# Altium integrated library AD Microcontroller ARM.IntLib: 47 symbols (part 3 of 3)
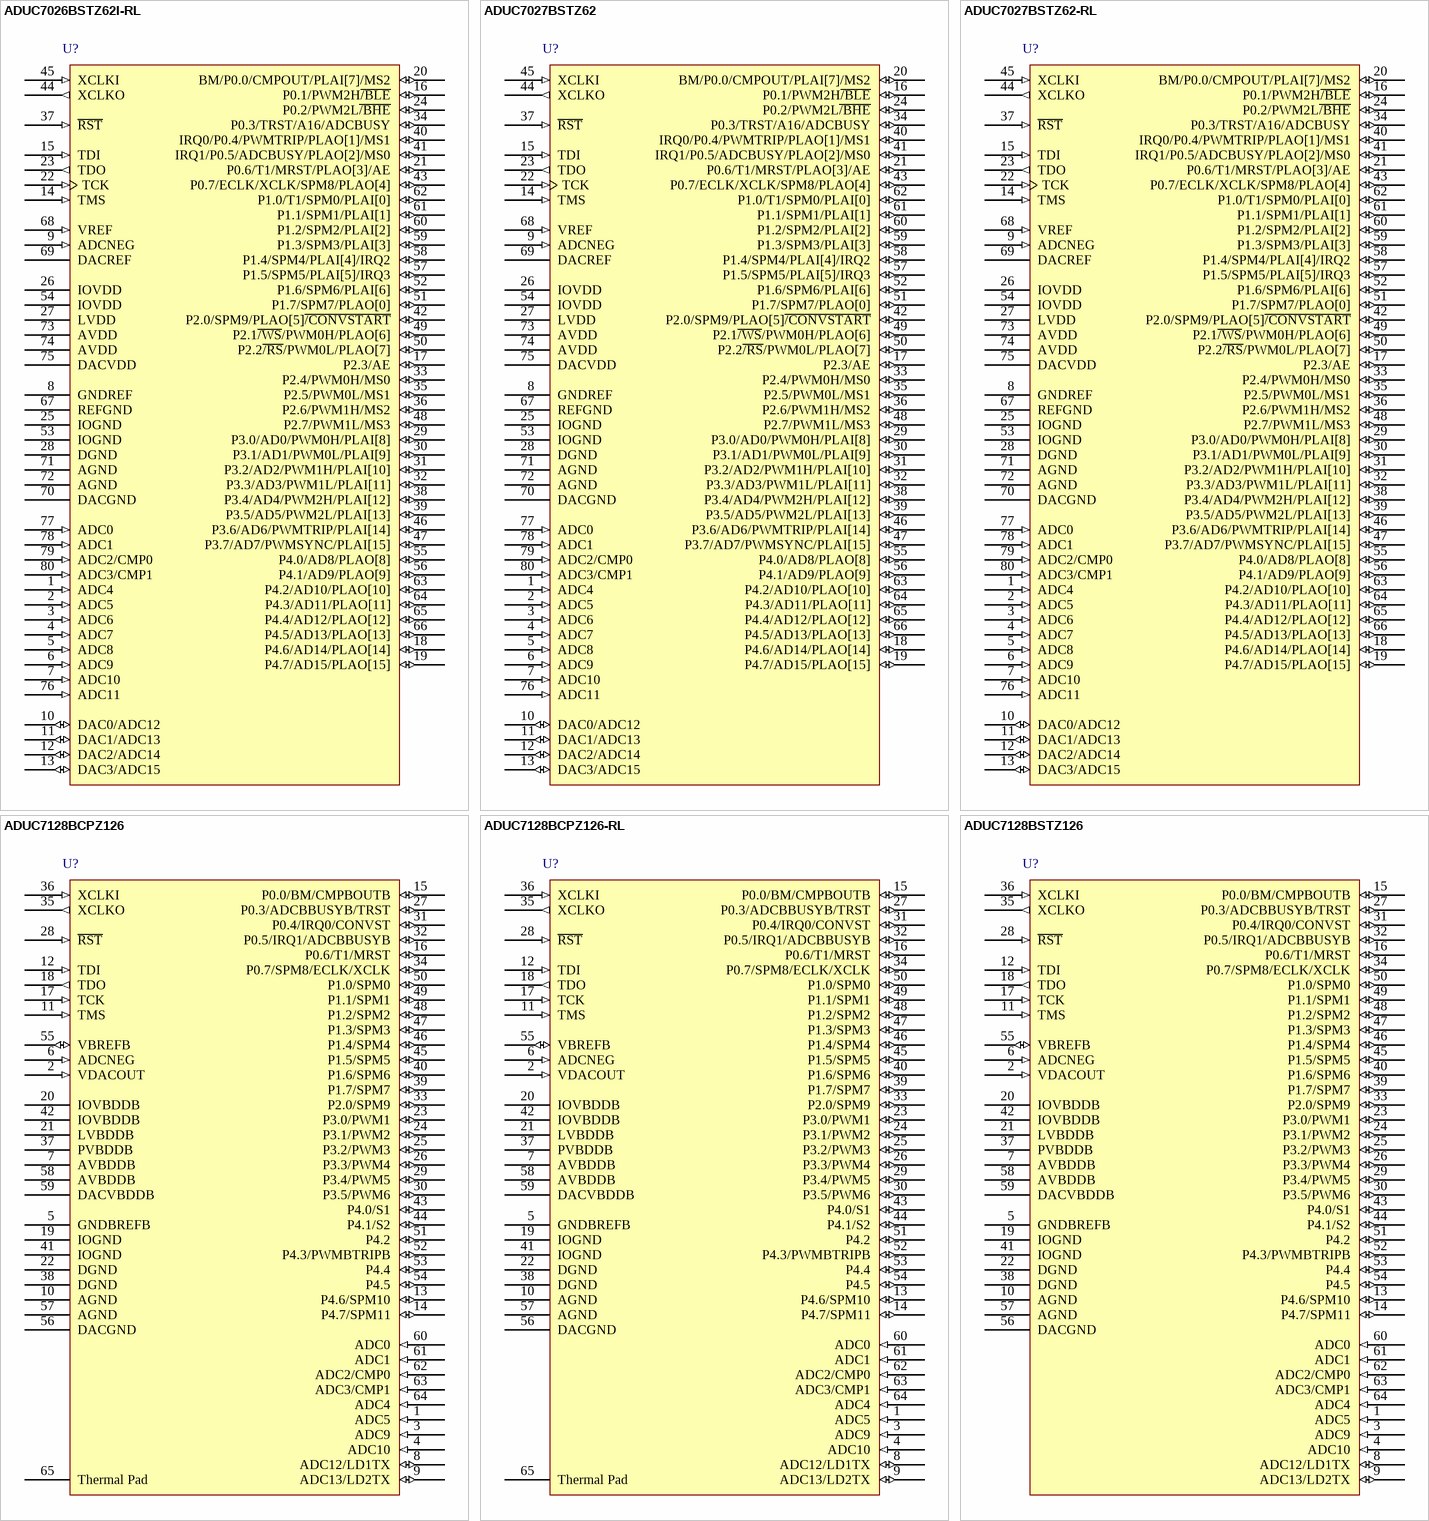
[diagram p9: symbols ADUC7026BSTZ62I-RL to ADUC7128BSTZ126]

## ADUC7128BCPZ126
designator U?
12-Bit Data Acquisition SOC, 40 MIPS ARM7 Flash MCU, 16 Channel ADC, 28 I/Os, 64-Pin LFCSP_VQ, Pb-Free; Published: 30-Mar-2007; DatasheetVersion: RevPrA, Mar-2006; PackageVersion: Apr-2004; PackageReference: CP-64-1; Publisher: Altium Limited; PackageDescription: 64-Pin Lead Frame Chip Scale Package [LFCSP] Very Thin Quad; Code_JEDEC: MO-220-VMMD; ComponentLink1Description: Manufacturer Link; ComponentLink1URL: http://www.analog.com/en/prod/0,,762_0_ADUC7128%2C00.html; ComponentLink2Description: Datasheet; ComponentLink2URL: http://www.analog.com/UploadedFiles/Data_Sheets/ADUC7128.pdf; ComponentLink3Description: Packaging Specification; ComponentLink3URL: http://www.analog.com/UploadedFiles/Packages/40887351787287CP_64_1.pdf
footprint CP-64-1_N (QFN, 64-Leads, Body 9x9mm, Pitch 0.5mm, IPC Medium Density)
footprint CP-64-1_L (QFN, 64-Leads, Body 9x9mm, Pitch 0.5mm, IPC High Density)
footprint CP-64-1_M (QFN, 64-Leads, Body 9x9mm, Pitch 0.5mm, IPC Low Density)
pins: 1 ADC5 (in), 2 VDACOUT (in), 3 ADC9 (in), 4 ADC10 (in), 5 GNDBREFB (power), 6 ADCNEG (in), 7 AVBDDB (power), 8 ADC12/LD1TX (io), 9 ADC13/LD2TX (io), 10 AGND (power), 11 TMS (in), 12 TDI (in), 13 P4.6/SPM10 (io), 14 P4.7/SPM11 (io), 15 P0.0/BM/CMPBOUTB (io), 16 P0.6/T1/MRST (io), 17 TCK (in), 18 TDO (out), 19 IOGND (power), 20 IOVBDDB (power), 21 LVBDDB (power), 22 DGND (power), 23 P3.0/PWM1 (io), 24 P3.1/PWM2 (io), 25 P3.2/PWM3 (io), 26 P3.3/PWM4 (io), 27 P0.3/ADCBBUSYB/TRST (io), 28 ~{RST} (in), 29 P3.4/PWM5 (io), 30 P3.5/PWM6 (io), 31 P0.4/IRQ0/CONVST (io), 32 P0.5/IRQ1/ADCBBUSYB (io), 33 P2.0/SPM9 (io), 34 P0.7/SPM8/ECLK/XCLK (io), 35 XCLKO (out), 36 XCLKI (in), 37 PVBDDB (power), 38 DGND (power), 39 P1.7/SPM7 (io), 40 P1.6/SPM6 (io), 41 IOGND (power), 42 IOVBDDB (power), 43 P4.0/S1 (io), 44 P4.1/S2 (io), 45 P1.5/SPM5 (io), 46 P1.4/SPM4 (io), 47 P1.3/SPM3 (io), 48 P1.2/SPM2 (io), 49 P1.1/SPM1 (io), 50 P1.0/SPM0 (io), 51 P4.2 (io), 52 P4.3/PWMBTRIPB (io), 53 P4.4 (io), 54 P4.5 (io), 55 VBREFB (io), 56 DACGND (power), 57 AGND (power), 58 AVBDDB (power), 59 DACVBDDB (power), 60 ADC0 (in), 61 ADC1 (in), 62 ADC2/CMP0 (in), 63 ADC3/CMP1 (in), 64 ADC4 (in), 65 Thermal Pad

## ADUC7128BCPZ126-RL
designator U?
12-Bit Data Acquisition SOC, 40 MIPS ARM7 Flash MCU, 16 Channel ADC, 28 I/Os, 64-Pin LFCSP_VQ, Pb-Free; Published: 30-Mar-2007; DatasheetVersion: RevPrA, Mar-2006; PackageVersion: Apr-2004; PackageReference: CP-64-1; Publisher: Altium Limited; PackageDescription: 64-Pin Lead Frame Chip Scale Package [LFCSP] Very Thin Quad; Code_JEDEC: MO-220-VMMD; ComponentLink1Description: Manufacturer Link; ComponentLink1URL: http://www.analog.com/en/prod/0,,762_0_ADUC7128%2C00.html; ComponentLink2Description: Datasheet; ComponentLink2URL: http://www.analog.com/UploadedFiles/Data_Sheets/ADUC7128.pdf; ComponentLink3Description: Packaging Specification; ComponentLink3URL: http://www.analog.com/UploadedFiles/Packages/40887351787287CP_64_1.pdf
footprint CP-64-1_N (QFN, 64-Leads, Body 9x9mm, Pitch 0.5mm, IPC Medium Density)
footprint CP-64-1_L (QFN, 64-Leads, Body 9x9mm, Pitch 0.5mm, IPC High Density)
footprint CP-64-1_M (QFN, 64-Leads, Body 9x9mm, Pitch 0.5mm, IPC Low Density)
pins: 1 ADC5 (in), 2 VDACOUT (in), 3 ADC9 (in), 4 ADC10 (in), 5 GNDBREFB (power), 6 ADCNEG (in), 7 AVBDDB (power), 8 ADC12/LD1TX (io), 9 ADC13/LD2TX (io), 10 AGND (power), 11 TMS (in), 12 TDI (in), 13 P4.6/SPM10 (io), 14 P4.7/SPM11 (io), 15 P0.0/BM/CMPBOUTB (io), 16 P0.6/T1/MRST (io), 17 TCK (in), 18 TDO (out), 19 IOGND (power), 20 IOVBDDB (power), 21 LVBDDB (power), 22 DGND (power), 23 P3.0/PWM1 (io), 24 P3.1/PWM2 (io), 25 P3.2/PWM3 (io), 26 P3.3/PWM4 (io), 27 P0.3/ADCBBUSYB/TRST (io), 28 ~{RST} (in), 29 P3.4/PWM5 (io), 30 P3.5/PWM6 (io), 31 P0.4/IRQ0/CONVST (io), 32 P0.5/IRQ1/ADCBBUSYB (io), 33 P2.0/SPM9 (io), 34 P0.7/SPM8/ECLK/XCLK (io), 35 XCLKO (out), 36 XCLKI (in), 37 PVBDDB (power), 38 DGND (power), 39 P1.7/SPM7 (io), 40 P1.6/SPM6 (io), 41 IOGND (power), 42 IOVBDDB (power), 43 P4.0/S1 (io), 44 P4.1/S2 (io), 45 P1.5/SPM5 (io), 46 P1.4/SPM4 (io), 47 P1.3/SPM3 (io), 48 P1.2/SPM2 (io), 49 P1.1/SPM1 (io), 50 P1.0/SPM0 (io), 51 P4.2 (io), 52 P4.3/PWMBTRIPB (io), 53 P4.4 (io), 54 P4.5 (io), 55 VBREFB (io), 56 DACGND (power), 57 AGND (power), 58 AVBDDB (power), 59 DACVBDDB (power), 60 ADC0 (in), 61 ADC1 (in), 62 ADC2/CMP0 (in), 63 ADC3/CMP1 (in), 64 ADC4 (in), 65 Thermal Pad

## ADUC7128BSTZ126
designator U?
12-Bit Data Acquisition SOC, 40 MIPS ARM7 Flash MCU, 16 Channel ADC, 28 I/Os, 64-Pin LQFP, Pb-Free; Published: 30-Mar-2007; DatasheetVersion: RevPrA, Mar-2006; PackageVersion: May-2006; PackageReference: ST-64-2; Publisher: Altium Limited; PackageDescription: 64-Pin Low Profile Quad Flat Pack [LQFP]; Code_JEDEC: MS-026-BCD; ComponentLink1Description: Manufacturer Link; ComponentLink1URL: http://www.analog.com/en/prod/0,,762_0_ADUC7128%2C00.html; ComponentLink2Description: Datasheet; ComponentLink2URL: http://www.analog.com/UploadedFiles/Data_Sheets/ADUC7128.pdf; ComponentLink3Description: Packaging Specification; ComponentLink3URL: http://www.analog.com/UploadedFiles/Packages/120493418ST_64_2.pdf
footprint ST-64-2_N (Thin QFP, 64-Leads, Body 10x10mm, Pitch 0.5mm, IPC Medium Density)
footprint ST-64-2_L (Thin QFP, 64-Leads, Body 10x10mm, Pitch 0.5mm, IPC High Density)
footprint ST-64-2_M (Thin QFP, 64-Leads, Body 10x10mm, Pitch 0.5mm, IPC Low Density)
3D model ADUC7128-ST-64-2 (64-Pin Low Profile Quad Flat Pack [LQFP])
pins: 1 ADC5 (in), 2 VDACOUT (in), 3 ADC9 (in), 4 ADC10 (in), 5 GNDBREFB (power), 6 ADCNEG (in), 7 AVBDDB (power), 8 ADC12/LD1TX (io), 9 ADC13/LD2TX (io), 10 AGND (power), 11 TMS (in), 12 TDI (in), 13 P4.6/SPM10 (io), 14 P4.7/SPM11 (io), 15 P0.0/BM/CMPBOUTB (io), 16 P0.6/T1/MRST (io), 17 TCK (in), 18 TDO (out), 19 IOGND (power), 20 IOVBDDB (power), 21 LVBDDB (power), 22 DGND (power), 23 P3.0/PWM1 (io), 24 P3.1/PWM2 (io), 25 P3.2/PWM3 (io), 26 P3.3/PWM4 (io), 27 P0.3/ADCBBUSYB/TRST (io), 28 ~{RST} (in), 29 P3.4/PWM5 (io), 30 P3.5/PWM6 (io), 31 P0.4/IRQ0/CONVST (io), 32 P0.5/IRQ1/ADCBBUSYB (io), 33 P2.0/SPM9 (io), 34 P0.7/SPM8/ECLK/XCLK (io), 35 XCLKO (out), 36 XCLKI (in), 37 PVBDDB (power), 38 DGND (power), 39 P1.7/SPM7 (io), 40 P1.6/SPM6 (io), 41 IOGND (power), 42 IOVBDDB (power), 43 P4.0/S1 (io), 44 P4.1/S2 (io), 45 P1.5/SPM5 (io), 46 P1.4/SPM4 (io), 47 P1.3/SPM3 (io), 48 P1.2/SPM2 (io), 49 P1.1/SPM1 (io), 50 P1.0/SPM0 (io), 51 P4.2 (io), 52 P4.3/PWMBTRIPB (io), 53 P4.4 (io), 54 P4.5 (io), 55 VBREFB (io), 56 DACGND (power), 57 AGND (power), 58 AVBDDB (power), 59 DACVBDDB (power), 60 ADC0 (in), 61 ADC1 (in), 62 ADC2/CMP0 (in), 63 ADC3/CMP1 (in), 64 ADC4 (in)

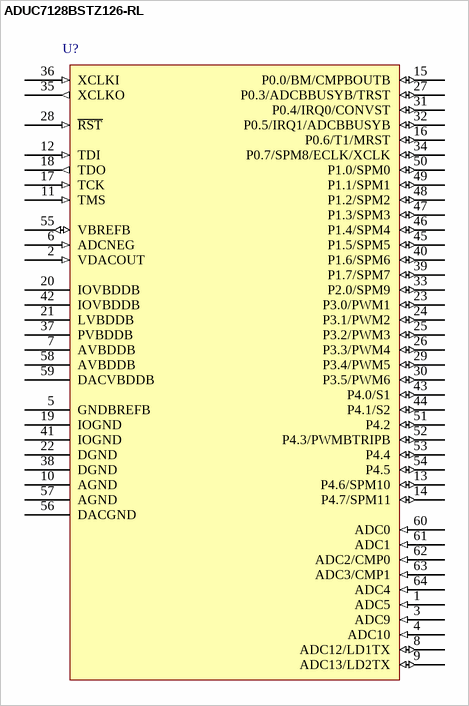
[diagram p7: symbol ADUC7128BSTZ126-RL]

## ADUC7128BSTZ126-RL
designator U?
12-Bit Data Acquisition SOC, 40 MIPS ARM7 Flash MCU, 16 Channel ADC, 28 I/Os, 64-Pin LQFP, Pb-Free; Published: 30-Mar-2007; DatasheetVersion: RevPrA, Mar-2006; PackageVersion: May-2006; PackageReference: ST-64-2; Publisher: Altium Limited; PackageDescription: 64-Pin Low Profile Quad Flat Pack [LQFP]; Code_JEDEC: MS-026-BCD; ComponentLink1Description: Manufacturer Link; ComponentLink1URL: http://www.analog.com/en/prod/0,,762_0_ADUC7128%2C00.html; ComponentLink2Description: Datasheet; ComponentLink2URL: http://www.analog.com/UploadedFiles/Data_Sheets/ADUC7128.pdf; ComponentLink3Description: Packaging Specification; ComponentLink3URL: http://www.analog.com/UploadedFiles/Packages/120493418ST_64_2.pdf
footprint ST-64-2_N (Thin QFP, 64-Leads, Body 10x10mm, Pitch 0.5mm, IPC Medium Density)
footprint ST-64-2_L (Thin QFP, 64-Leads, Body 10x10mm, Pitch 0.5mm, IPC High Density)
footprint ST-64-2_M (Thin QFP, 64-Leads, Body 10x10mm, Pitch 0.5mm, IPC Low Density)
3D model ADUC7128-ST-64-2 (64-Pin Low Profile Quad Flat Pack [LQFP])
pins: 1 ADC5 (in), 2 VDACOUT (in), 3 ADC9 (in), 4 ADC10 (in), 5 GNDBREFB (power), 6 ADCNEG (in), 7 AVBDDB (power), 8 ADC12/LD1TX (io), 9 ADC13/LD2TX (io), 10 AGND (power), 11 TMS (in), 12 TDI (in), 13 P4.6/SPM10 (io), 14 P4.7/SPM11 (io), 15 P0.0/BM/CMPBOUTB (io), 16 P0.6/T1/MRST (io), 17 TCK (in), 18 TDO (out), 19 IOGND (power), 20 IOVBDDB (power), 21 LVBDDB (power), 22 DGND (power), 23 P3.0/PWM1 (io), 24 P3.1/PWM2 (io), 25 P3.2/PWM3 (io), 26 P3.3/PWM4 (io), 27 P0.3/ADCBBUSYB/TRST (io), 28 ~{RST} (in), 29 P3.4/PWM5 (io), 30 P3.5/PWM6 (io), 31 P0.4/IRQ0/CONVST (io), 32 P0.5/IRQ1/ADCBBUSYB (io), 33 P2.0/SPM9 (io), 34 P0.7/SPM8/ECLK/XCLK (io), 35 XCLKO (out), 36 XCLKI (in), 37 PVBDDB (power), 38 DGND (power), 39 P1.7/SPM7 (io), 40 P1.6/SPM6 (io), 41 IOGND (power), 42 IOVBDDB (power), 43 P4.0/S1 (io), 44 P4.1/S2 (io), 45 P1.5/SPM5 (io), 46 P1.4/SPM4 (io), 47 P1.3/SPM3 (io), 48 P1.2/SPM2 (io), 49 P1.1/SPM1 (io), 50 P1.0/SPM0 (io), 51 P4.2 (io), 52 P4.3/PWMBTRIPB (io), 53 P4.4 (io), 54 P4.5 (io), 55 VBREFB (io), 56 DACGND (power), 57 AGND (power), 58 AVBDDB (power), 59 DACVBDDB (power), 60 ADC0 (in), 61 ADC1 (in), 62 ADC2/CMP0 (in), 63 ADC3/CMP1 (in), 64 ADC4 (in)